# Altium schematic symbol library 15910060.SchLib: 2 symbols
Pins are listed as number, name and electrical type; pins without a type are passive.

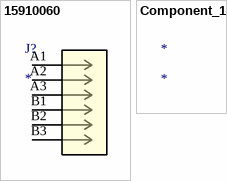
[diagram p0: symbols 15910060 to Component_1]

## 15910060
designator J?
No Description Available; Mfr_Name: Molex Connector Corporation; RefDes: RefDes; Type: Type
footprint CONN_713080000-SD_06_M6p10_MOL
pins: A1, A2, A3, B1, B2, B3

## Component_1
designator *